# EAGLE library part ESP_32_WROVER_I_PKG (library Blizzard_Library)
ESP32-WROVER-I
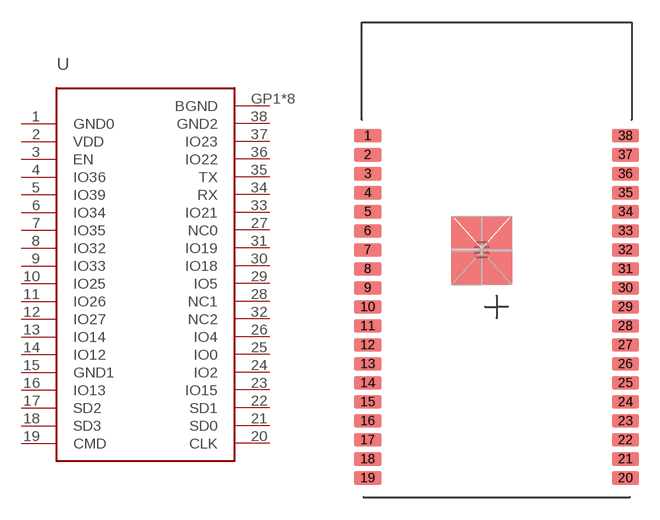
[diagram p6: symbol with the pads of ESP32_WROVER_I_PKG; footprint ESP32_WROVER_I_PKG]

Designator prefix U

## ESP_32_WROVER_I_PKG (PN: GC-ESP-WROVER-32)  [ESP32_WROVER_I_PKG]
1  GND0
2  VDD
3  EN
4  IO36
5  IO39
6  IO34
7  IO35
8  IO32
9  IO33
10  IO25
11  IO26
12  IO27
13  IO14
14  IO12
15  GND1
16  IO13
17  SD2
18  SD3
19  CMD
20  CLK
21  SD0
22  SD1
23  IO15
24  IO2
25  IO0
26  IO4
27  NC0
28  NC1
29  IO5
30  IO18
31  IO19
32  NC2
33  IO21
34  RX
35  TX
36  IO22
37  IO23
38  GND2
GP1  BGND
GP2  BGND
GP3  BGND
GP4  BGND
GP5  BGND
GP6  BGND
GP8  BGND
GP9  BGND

## Footprint ESP32_WROVER_I_PKG (pad centres in mm)
ESP32-WROVER-I
smd 1.8 x 0.9: 1 -8.6,11.43; 2 -8.6,10.16; 3 -8.6,8.89; 4 -8.6,7.62; 5 -8.6,6.35; 6 -8.6,5.08; 7 -8.6,3.81; 8 -8.6,2.54; 9 -8.6,1.27; 10 -8.6,0; 11 -8.6,-1.27; 12 -8.6,-2.54; 13 -8.6,-3.81; 14 -8.6,-5.08; 15 -8.6,-6.35; 16 -8.6,-7.62; 17 -8.6,-8.89; 18 -8.6,-10.16; 19 -8.6,-11.43; 20 8.6,-11.43; 21 8.6,-10.16; 22 8.6,-8.89; 23 8.6,-7.62; 24 8.6,-6.35; 25 8.6,-5.08; 26 8.6,-3.81; 27 8.6,-2.54; 28 8.6,-1.27; 29 8.6,0; 30 8.6,1.27; 31 8.6,2.54; 32 8.6,3.81; 33 8.6,5.08; 34 8.6,6.35; 35 8.6,7.62; 36 8.6,8.89; 37 8.6,10.16; 38 8.6,11.43
smd 0.1 x 0.1: GP1 -1.3,4; GP2 -1.2,4.3; GP3 -0.8,4.3; GP4 -0.7,4; GP5 -0.7,3.6; GP6 -0.8,3.3; GP8 -1.2,3.3; GP9 -1.3,3.6